# EAGLE library part TWE-LITE (library ProjectFromKIKS)
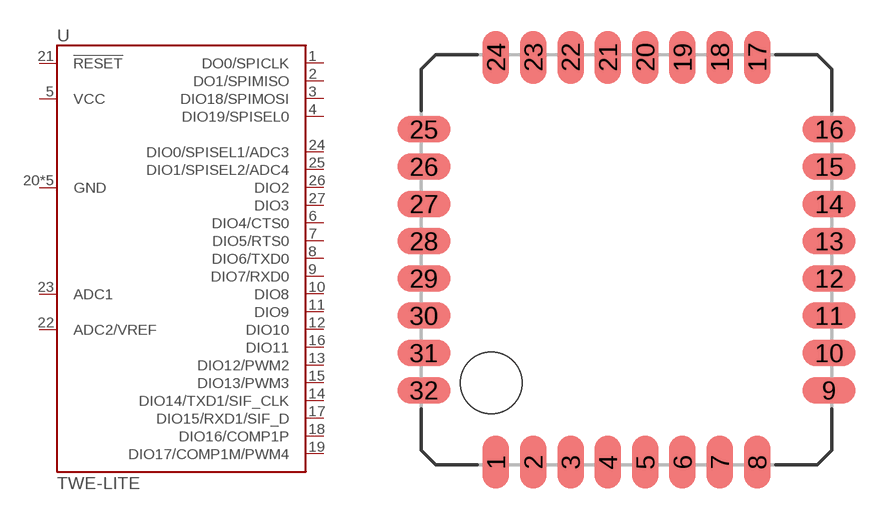
[diagram p0: symbol with the pads of TWE-LITE; footprint TWE-LITE]

Designator prefix U

## TWE-LITE  [TWE-LITE]
1  DO0/SPICLK
2  DO1/SPIMISO
3  DIO18/SPIMOSI
4  DIO19/SPISEL0
5  VCC
6  DIO4/CTS0
7  DIO5/RTS0
8  DIO6/TXD0
9  DIO7/RXD0
10  DIO8
11  DIO9
12  DIO10
13  DIO12/PWM2
14  DIO14/TXD1/SIF_CLK
15  DIO13/PWM3
16  DIO11
17  DIO15/RXD1/SIF_D
18  DIO16/COMP1P
19  DIO17/COMP1M/PWM4
20  GND
21  !RESET
22  ADC2/VREF
23  ADC1
24  DIO0/SPISEL1/ADC3
25  DIO1/SPISEL2/ADC4
26  DIO2
27  DIO3
28  GND
30  GND
31  GND
32  GND

## Footprint TWE-LITE (pad centres in mm)
smd 0.9 x 1.8: 1 -4.445,-6.9; 2 -3.175,-6.9; 3 -1.905,-6.9; 4 -0.635,-6.9; 5 0.635,-6.9; 6 1.905,-6.9; 7 3.175,-6.9; 8 4.445,-6.9; 17 4.445,6.9; 18 3.175,6.9; 19 1.905,6.9; 20 0.635,6.9; 21 -0.635,6.9; 22 -1.905,6.9; 23 -3.175,6.9; 24 -4.445,6.9
smd 1.8 x 0.9: 9 6.9,-4.445; 10 6.9,-3.175; 11 6.9,-1.905; 12 6.9,-0.635; 13 6.9,0.635; 14 6.9,1.905; 15 6.9,3.175; 16 6.9,4.445; 25 -6.9,4.445; 26 -6.9,3.175; 27 -6.9,1.905; 28 -6.9,0.635; 29 -6.9,-0.635; 30 -6.9,-1.905; 31 -6.9,-3.175; 32 -6.9,-4.445
hole 2.1 at -4.6,-4.2